# EAGLE library part LTC3539 (library PowerProducts)
LT-Spice library generated with : ltspice.ulp from: D:/Program Files (x86)/LTC/LTspiceIV/lib/sym/PowerProducts/LTC3541-1*.asy at 07.10.2012 18:16:50
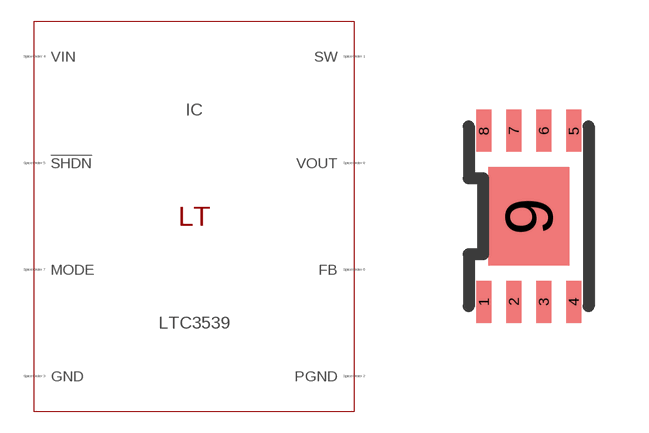
[diagram p229: symbol with the pads of DFN8(DCB); footprint DFN8(DCB)]

Designator prefix IC

## LTC3539 (SPICEMODEL: LTC3539.sub; SPICEPREFIX: X; VALUE2: LTC3539)  [DFN8(DCB)]
1  SW  pas
2  PGND  pas
3  GND  pas
4  VIN  pas
5  !SHDN  pas
6  FB  pas
7  MODE  pas
8  VOUT  pas
9  GND  pas

## Footprint DFN8(DCB) (pad centres in mm)
Package generated from: DFN8(DCB).asc (!PADS-POWERPCB-V5.0-BASIC! DESIGN DATABASE ASCII FILE 1.0) with :import-pads-powerpcb-v5.ulp Version 1.0.1 at 04.10.2012 14:11:17
smd 0.375 x 1.05: 1 -1.125,-2.138; 2 -0.375,-2.138; 3 0.375,-2.138; 4 1.125,-2.138; 5 1.125,2.138; 6 0.375,2.138; 7 -0.375,2.138; 8 -1.125,2.138
smd 2.025 x 2.475: 9 0,0